# Altium schematic symbol library CMOY Pro Lib.SchLib: 3 symbols
Pins are listed as number, name and electrical type; pins without a type are passive.

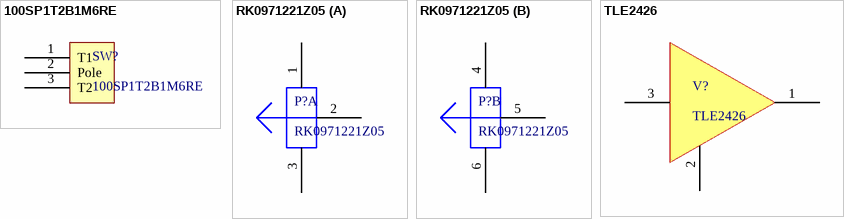
[diagram p0: symbols 100SP1T2B1M6RE to TLE2426]

## 100SP1T2B1M6RE
designator SW?
Right angle PCB Mount Toggle Switch
footprint 100SP1T2B1M6RE (SPDT Right Angle PCB Mount Toggle Switch)
pins: 1 T1, 2 Pole, 3 T2, 4 NC hidden, 5 NC hidden

## RK0971221Z05
designator P?
PCB Mount Dual Ganged 10K Pot
footprint RK0971221Z05 (Doubke Ganged 10k Pot)
part A pins: 1, 2, 3
part B pins: 4, 5, 6

## TLE2426
designator V?
TLE2426 Rail Divider LP Package
pins: 1, 2, 3